# Altium footprint library Switch.PcbLib: 5 footprints
Each footprint in its own frame and in the unit in brackets; x right, y up, seen from the top. Pads: shape width x height; smd on the part's side, far side on the other; paste and mask are expansions set on the pad; w line width, h text height; cw(c..) or ccw(c..) is an arc to the next point about the centre after c.
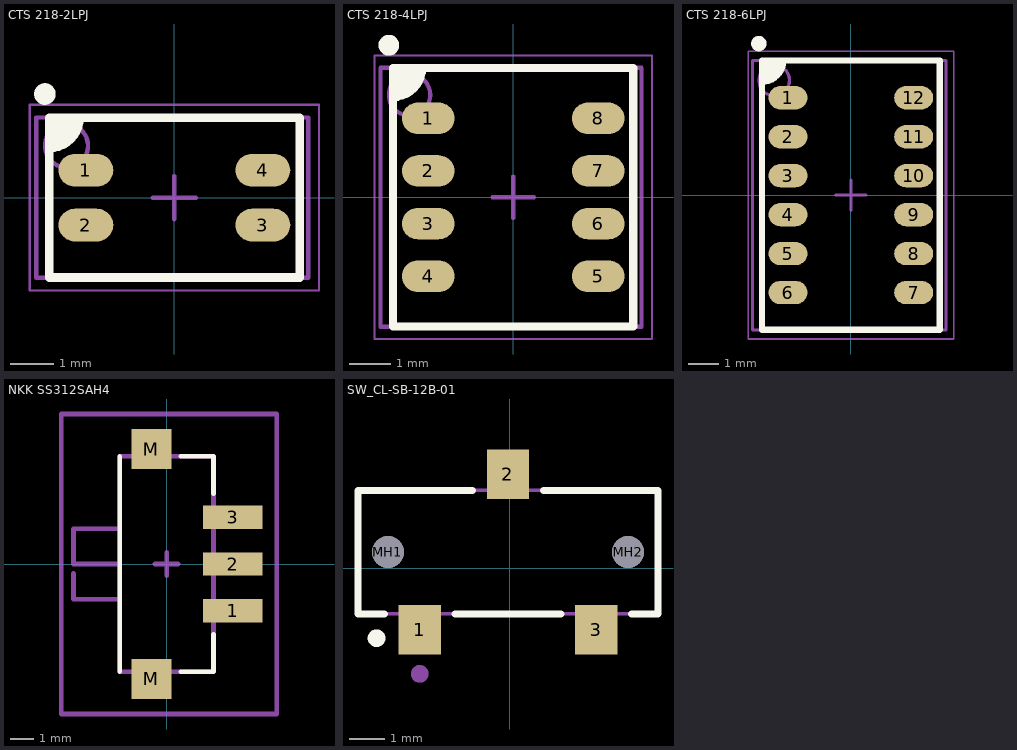
[diagram p0: the footprints below, top view; thin cyan lines are the x and y axes]

## CTS 218-2LPJ [mm] "DIP, 2 POS, Body 3.71x6.05mm, Pitch 1.27mm, IPC Medium Density"
height 2.7
pads (4):
  oval 1.27x0.76 smd: 1(-2.05,0.635) 2(-2.05,-0.635) 3(2.05,-0.635) 4(2.05,0.635)
Top Overlay:
  circle w0.25: c-3,2.4 r0.125
  region: -2.9,1.85 -2.9,1.1 -2.7,1.1 -2.2,1.6 -2.2,1.85
  lines w0.2: -2.9,1.15 ccw(c-2.9,1.85) -2.2,1.85 ; -2.9,-1.85 2.9,-1.85 2.9,1.85 -2.9,1.85 -2.9,-1.85
Mechanical 13:
  circle w0.1: c-2.5,1.2 r0.5
  lines w0.1: -3.2,-1.855 -3.2,1.855 3.1,1.855 3.1,-1.855 -3.2,-1.855
Mechanical 15:
  lines w0.05: -3.35,-2.15 -3.35,2.15 3.35,2.15 3.35,-2.15 -3.35,-2.15
  lines w0.1: -0.5,0 0.5,0 ; 0,-0.5 0,0.5
3D body "CTS-218-2LPSTJ.STEP": height 2.71, standoff 0, extent -3.155,-1.855 3.155,1.855

## CTS 218-4LPJ [mm] "DIP, 6 POS, Body 8.79x6.05mm, Pitch 1.27mm, IPC Medium Density"
height 2.7
pads (8):
  oval 1.27x0.76 smd: 1(-2.05,1.905) 2(-2.05,0.635) 3(-2.05,-0.635) 4(-2.05,-1.905) 5(2.05,-1.905) 6(2.05,-0.635) 7(2.05,0.635) 8(2.05,1.905)
Top Overlay:
  circle w0.25: c-3,3.67 r0.125
  region: -2.9,3.12 -2.9,2.37 -2.7,2.37 -2.2,2.87 -2.2,3.12
  lines w0.2: -2.9,2.42 ccw(c-2.9,3.12) -2.2,3.12 ; -2.9,-3.12 -2.9,3.12 2.9,3.12 2.9,-3.12 -2.9,-3.12
Mechanical 13:
  circle w0.1: c-2.5,2.47 r0.5
  lines w0.1: -3.2,-3.125 3.1,-3.125 3.1,3.125 -3.2,3.125 -3.2,-3.125
Mechanical 15:
  lines w0.05: -3.35,-3.42 3.35,-3.42 3.35,3.42 -3.35,3.42 -3.35,-3.42
  lines w0.1: -0.5,0 0.5,0 ; 0,-0.5 0,0.5
3D body "CTS-218-4LPSTJ.STEP": height 2.71, standoff 0, extent -3.155,-3.125 3.155,3.125

## CTS 218-6LPJ [mm] "DIP, 4 POS, Body 6.25x6.05mm, Pitch 1.27mm, IPC Medium Density"
height 2.7
pads (12):
  oval 1.27x0.76 smd: 1(-2.05,3.175) 2(-2.05,1.905) 3(-2.05,0.635) 4(-2.05,-0.635) 5(-2.05,-1.905) 6(-2.05,-3.175) 7(2.05,-3.175) 8(2.05,-1.905) 9(2.05,-0.635) 10(2.05,0.635) 11(2.05,1.905) 12(2.05,3.175)
Top Overlay:
  circle w0.25: c-3,4.94 r0.125
  region: -2.9,4.39 -2.9,3.64 -2.7,3.64 -2.2,4.14 -2.2,4.39
  lines w0.2: -2.9,3.69 ccw(c-2.9,4.39) -2.2,4.39 ; -2.9,-4.39 2.9,-4.39 2.9,4.39 -2.9,4.39 -2.9,-4.39
Mechanical 13:
  circle w0.1: c-2.5,3.74 r0.5
  lines w0.1: -3.2,-4.395 -3.2,4.395 3.1,4.395 3.1,-4.395 -3.2,-4.395
Mechanical 15:
  lines w0.05: -3.35,-4.69 -3.35,4.69 3.35,4.69 3.35,-4.69 -3.35,-4.69
  lines w0.1: -0.5,0 0.5,0 ; 0,-0.5 0,0.5
3D body "CTS-218-6LPSTJ.STEP": height 2.71, standoff 0, extent -3.155,-4.395 3.155,4.395

## NKK SS312SAH4 [mm]
height 2.9
pads (5):
  rect 2.55x1 smd: 1(2.825,-2) 2(2.825,0) 3(2.825,2)
  rect 1.7x1.7 smd: M(-0.65,-4.9) M(-0.65,4.9)
Top Overlay:
  lines w0.2: -2,-4.6 -2,4.6 ; 0.6,-4.6 2,-4.6 2,-3 ; 0.6,4.6 2,4.6 2,3
Mechanical 1:
  lines w0.2: -3.976,-0.4 -3.976,-1.5 -2,-1.5 ; -2,0 -3.976,0 -3.976,1.5 -2,1.5 ; -2,-4.6 2,-4.6 2,4.6 -2,4.6 -2,-4.6
Mechanical 15:
  lines w0.2: -0.5,0 0.5,0 ; 0,-0.5 0,0.5 ; -4.5,-6.4 4.7,-6.4 4.7,6.4 -4.5,6.4 -4.5,-6.4
3D body "NKK SS312SAH4.STEP": height 2.9, standoff -0.15, extent -3.976,-5.245 3.416,5.245

## SW_CL-SB-12B-01 [mm]
height 5.5
pads (5):
  rect 1.2x1.4 smd: 1(-2.544,-1.743) 2(-0.044,2.657) 3(2.456,-1.743)
  round 0.9 hole 0.9 unplated: MH1(-3.444,0.457) MH2(3.356,0.457)
Top Overlay:
  circle w0.25: c-3.77,-1.981 r0.125
  lines w0.2: -3.544,-1.293 -4.294,-1.293 -4.294,2.207 -1.044,2.207 ; -1.544,-1.293 1.456,-1.293 ; 0.956,2.207 4.206,2.207 4.206,-1.293 3.456,-1.293
Mechanical 5:
  circle w0.25: c-2.544,-2.993 r0.125
  lines w0.1: -4.294,-1.293 4.206,-1.293 4.206,2.207 -4.294,2.207 -4.294,-1.293
  text ".Designator" at -1.5,-4 h0.89
3D body: height 5.5, standoff 3.4, extent 0.206,-0.293 1.706,1.207
3D body: height 3.51, standoff 3.4, extent -1.794,-0.293 -1.294,1.207
3D body: height 3.51, standoff 3.4, extent -1.294,-0.293 1.706,1.207
3D body: height 0, standoff -0.8, extent 2.957,0.061 3.755,0.857
3D body: height 0, standoff -0.8, extent -3.843,0.061 -3.045,0.857
3D body: height 3.5, standoff 0, extent -4.294,-1.293 4.206,2.207